# Altium footprint library CH1812F.PcbLib: 1 footprints
Each footprint in its own frame and in the unit in brackets; x right, y up, seen from the top. Pads: shape width x height; smd on the part's side, far side on the other; paste and mask are expansions set on the pad; w line width, h text height; cw(c..) or ccw(c..) is an arc to the next point about the centre after c.
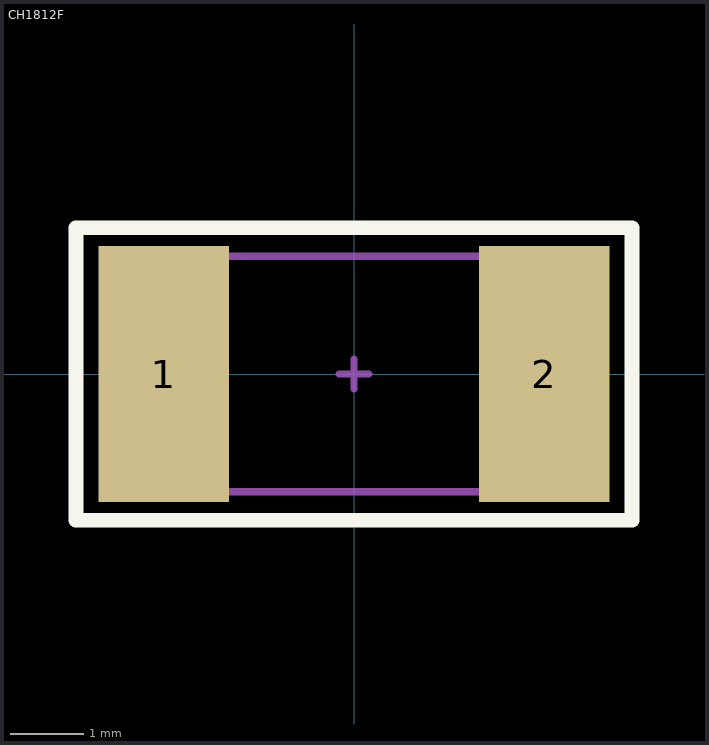
[diagram p0: the footprint, top view; thin cyan lines are the x and y axes]

## CH1812F [mm]
pads (2):
  rect 1.78x3.5 smd: 1(-2.6,0) 2(2.6,0)
Top Overlay:
  lines w0.2: -3.8,-2 -3.8,2 3.8,2 3.8,-2 -3.8,-2
Mechanical 1:
  lines w0.1: -2.41,-1.61 2.41,-1.61 2.41,1.61 -2.41,1.61 -2.41,-1.61
Mechanical 15:
  lines w0.1: -0.2,0 0.2,0 ; 0,-0.2 0,0.2 ; -3.8,-2 -3.7,-2 3.8,-2 3.8,2 -3.8,2 -3.8,-2
3D body "User Library-fuse1812.step": height 1.32, standoff 0, extent -2.41,-1.61 2.41,1.61